# EAGLE library part CS4334 (library everlight-fiber-optics-spdif)
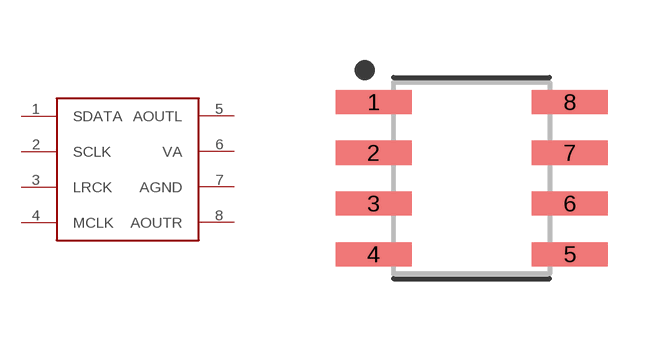
[diagram p0: symbol with the pads of SOIC127P600X175-8; footprint SOIC127P600X175-8]

Designator prefix -

## CS4334  [SOIC127P600X175-8]
1  SDATA
2  SCLK
3  LRCK
4  MCLK
5  AOUTL
6  VA
7  AGND
8  AOUTR

## Footprint SOIC127P600X175-8 (pad centres in mm)
8-SOIC, 1.27 mm pitch, 6.00 mm span, 4.80 X 3.90 X 1.75 mm body 8-pin SOIC package with 1.27 mm pitch, 6.00 mm span with body size 4.80 X 3.90 X 1.75 mm
smd 1.901 x 0.602: 1 -2.455,1.905; 2 -2.455,0.635; 3 -2.455,-0.635; 4 -2.455,-1.905; 5 2.455,-1.905; 6 2.455,-0.635; 7 2.455,0.635; 8 2.455,1.905